# Altium footprint library 研发中心PCB库文件.PcbLib: 333 footprints (part 11 of 21)
Each footprint in its own frame and in the unit in brackets; x right, y up, seen from the top. Pads: shape width x height; smd on the part's side, far side on the other; paste and mask are expansions set on the pad; w line width, h text height; cw(c..) or ccw(c..) is an arc to the next point about the centre after c.
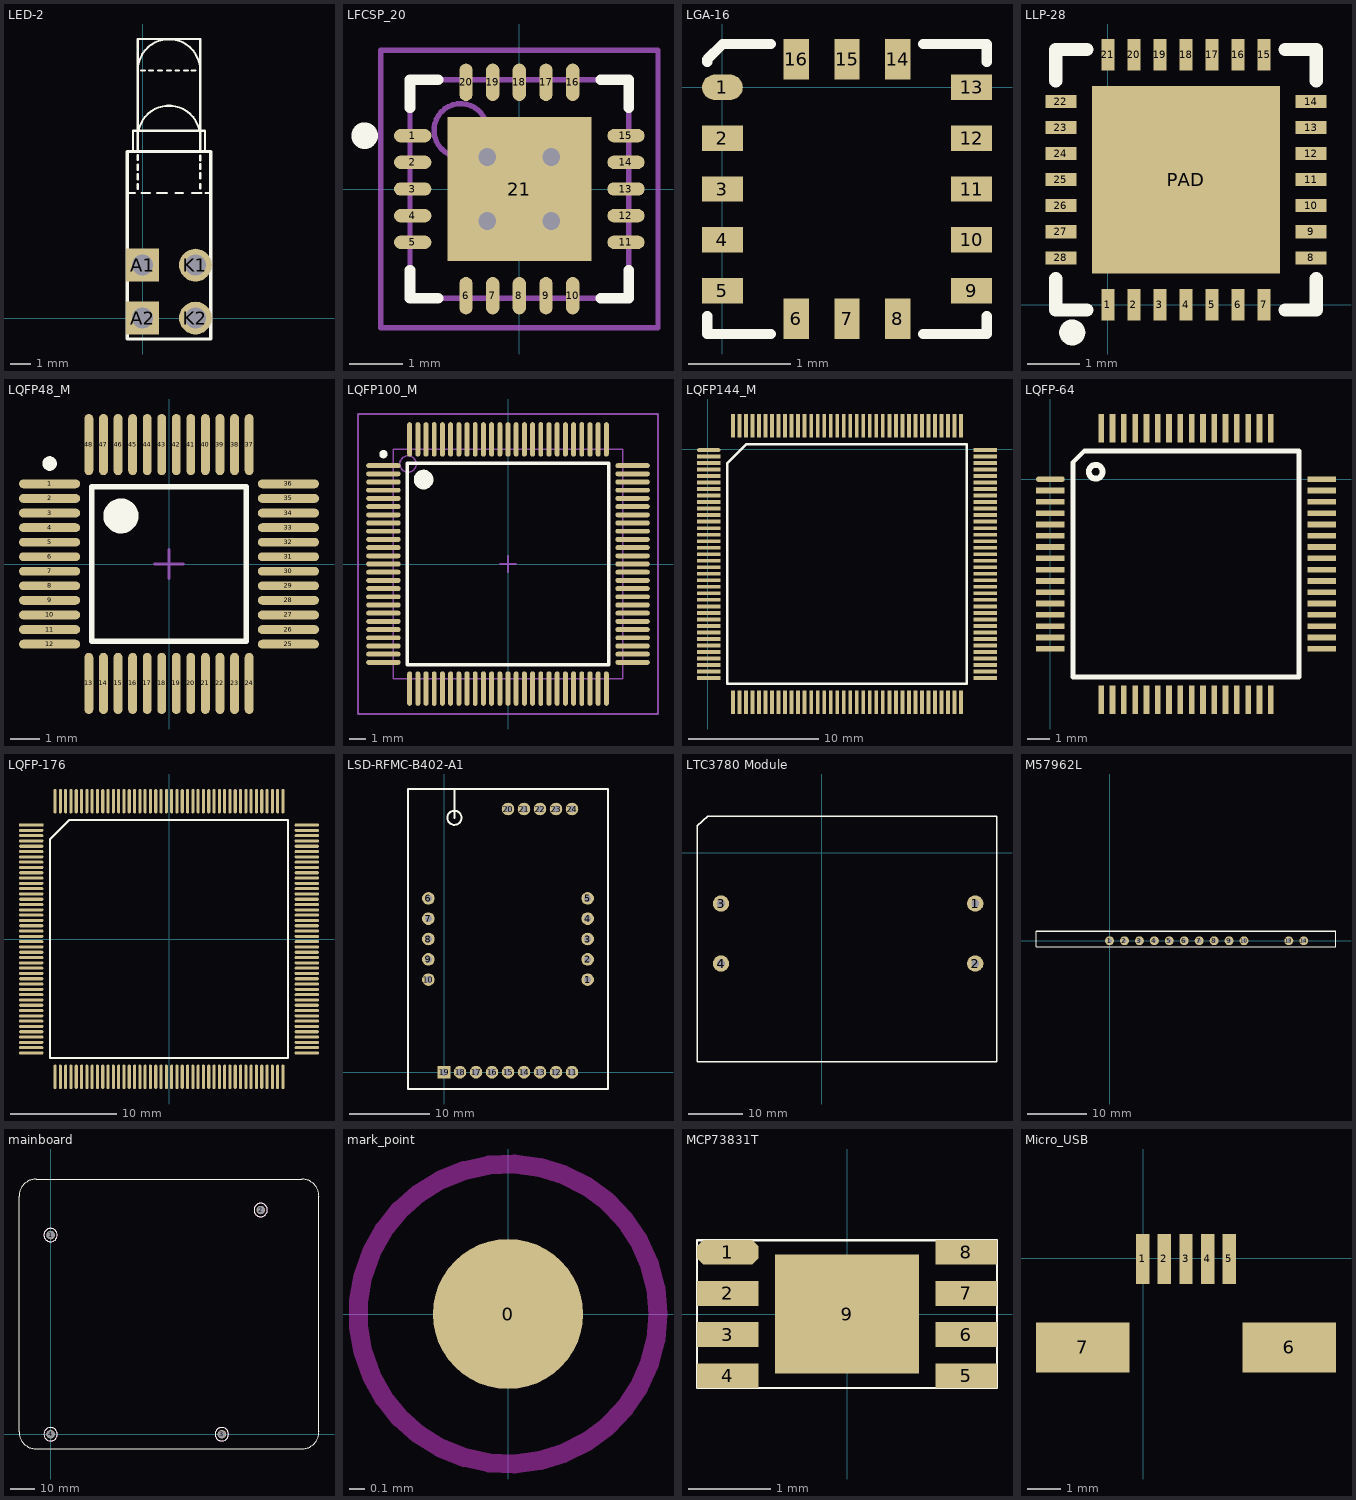
[diagram p10: the footprints below, top view; thin cyan lines are the x and y axes]

## LED-2 [mil]
pads (4):
  rect 62x62 hole 40: A1(0,100) A2(0,0)
  round 62 hole 40: K1(100,100) K2(100,0)
Top Overlay:
  lines w3.94: -30,236.02 -14,236.02 ; -18,315 -18,354 118,354 118,315 ; -9.11,468 cw(c49.94,468) 109,468 ; -9.06,342.32 cw(c50,342.32) 109.06,342.32 ; -9,244 -9,253 ; -9,262 -9,272 ; -9,280 -9,290 ; -9,299 -9,308 ; -9,315 -9,350 -9,527 ; -9,527.36 109,527.36 ; -3,468 5,468 ; -2,236.02 14,236.02 ; 12,468 20,468 ; 27,236.02 46,236.02 ; 29,468 37,468 ; 46,468 54,468 ; 62,236.02 76,236.02 ; 62,468 69,468 ; 78,468 86,468 ; 93,468 100,468 ; 94,236.02 111,236.02 ; 109,245 109,253 ; 109,264 109,274 ; 109,282 109,291 ; 109,298 109,307 ; 109,314 109,350 109,527 ; 119,236.02 128,236.02
  lines w6: -28.74,-39.57 128.74,-39.57 128.74,314.76 -28.74,314.76 -28.74,-39.57

## LFCSP_20 [mm]
height 0.8
pads (21):
  oval 0.7x0.25 smd: 1(-2,1) 2(-2,0.5) 3(-2,0) 4(-2,-0.5) 5(-2,-1) 11(2,-1) 12(2,-0.5) 13(2,0) 14(2,0.5) 15(2,1)
  oval 0.25x0.7 smd: 6(-1,-2) 7(-0.5,-2) 8(0,-2) 9(0.5,-2) 10(1,-2) 16(1,2) 17(0.5,2) 18(0,2) 19(-0.5,2) 20(-1,2)
  rect 2.7x2.7 smd: 21(0,0)
via 0.6,-0.6 diameter 0.66 hole 0.33
via -0.6,-0.6 diameter 0.66 hole 0.33
via 0.6,0.6 diameter 0.66 hole 0.33
via -0.6,0.6 diameter 0.66 hole 0.33
Top Overlay:
  circle w0.25: c-2.9,1 r0.125
  lines w0.2: -2.05,-1.525 -2.05,-2.05 -1.525,-2.05 ; -2.05,1.525 -2.05,2.05 -1.525,2.05 ; 1.525,-2.05 2.05,-2.05 2.05,-1.525 ; 1.525,2.05 2.05,2.05 2.05,1.525
Mechanical 13:
  circle w0.1: c-1.1,1.1 r0.5
  lines w0.1: -2.05,-2.05 2.05,-2.05 2.05,2.05 -2.05,2.05 -2.05,-2.05
Mechanical 15:
  lines w0.1: -0.5,0 0.5,0 ; 0,-0.5 0,0.5 ; -2.6,-2.6 2.6,-2.6 2.6,2.6 -2.6,2.6 -2.6,-2.6
3D body: height 0.8, standoff 0.02, extent -2.05,-2.05 2.05,2.05

## LGA-16 [mm]
pads (16):
  oval 0.4x0.25 smd: 1(0,0)
  rect 0.4x0.25 smd: 2(0,-0.5) 3(0,-1) 4(0,-1.5) 5(0,-2) 9(2.45,-2) 10(2.45,-1.5) 11(2.45,-1) 12(2.45,-0.5) 13(2.45,0)
  rect 0.25x0.4 smd: 6(0.725,-2.275) 7(1.225,-2.275) 8(1.725,-2.275) 14(1.725,0.275) 15(1.225,0.275) 16(0.725,0.275)
Top Overlay:
  lines w0.1: -0.15,-2.25 -0.15,-2.425 0.475,-2.425 ; -0.15,0.25 -0.15,0.275 0,0.425 0.475,0.425 ; 1.975,-2.425 2.6,-2.425 2.6,-2.25 ; 1.975,0.425 2.6,0.425 2.6,0.25

## LLP-28 [mm]
height 0.8
pads (29):
  rect 0.25x0.6 smd: 1(0,0) 2(0.5,0) 3(1,0) 4(1.5,0) 5(2,0) 6(2.5,0) 7(3,0) 15(3,4.8) 16(2.5,4.8) 17(2,4.8) 18(1.5,4.8) 19(1,4.8) 20(0.5,4.8) 21(0,4.8)
  rect 0.6x0.25 smd: 8(3.9,0.9) 9(3.9,1.4) 10(3.9,1.9) 11(3.9,2.4) 12(3.9,2.9) 13(3.9,3.4) 14(3.9,3.9) 22(-0.9,3.9) 23(-0.9,3.4) 24(-0.9,2.9) 25(-0.9,2.4) 26(-0.9,1.9) 27(-0.9,1.4) 28(-0.9,0.9)
  rect 3.6x3.6 smd: PAD(1.5,2.4)
Top Overlay:
  circle w0.25: c-0.684,-0.533 r0.125
  lines w0.254: -1,0.5 -1,-0.1 -0.4,-0.1 ; -1,4.3 -1,4.9 -0.4,4.9 ; 3.4,-0.1 4,-0.1 4,0.5 ; 3.4,4.9 4,4.9 4,4.3

## LQFP48_M [mm] "Thin QFP, 48-Leads, Body 7x7mm, Pitch 0.5mm, IPC Low Density"
height 1.6
pads (48):
  oval 2.1x0.3 smd: 1(-4.1,2.75) 2(-4.1,2.25) 3(-4.1,1.75) 4(-4.1,1.25) 5(-4.1,0.75) 6(-4.1,0.25) 7(-4.1,-0.25) 8(-4.1,-0.75) 9(-4.1,-1.25) 10(-4.1,-1.75) 11(-4.1,-2.25) 12(-4.1,-2.75) 25(4.1,-2.75) 26(4.1,-2.25) 27(4.1,-1.75) 28(4.1,-1.25) 29(4.1,-0.75) 30(4.1,-0.25) 31(4.1,0.25) 32(4.1,0.75) 33(4.1,1.25) 34(4.1,1.75) 35(4.1,2.25) 36(4.1,2.75)
  oval 0.3x2.1 smd: 13(-2.75,-4.1) 14(-2.25,-4.1) 15(-1.75,-4.1) 16(-1.25,-4.1) 17(-0.75,-4.1) 18(-0.25,-4.1) 19(0.25,-4.1) 20(0.75,-4.1) 21(1.25,-4.1) 22(1.75,-4.1) 23(2.25,-4.1) 24(2.75,-4.1) 37(2.75,4.1) 38(2.25,4.1) 39(1.75,4.1) 40(1.25,4.1) 41(0.75,4.1) 42(0.25,4.1) 43(-0.25,4.1) 44(-0.75,4.1) 45(-1.25,4.1) 46(-1.75,4.1) 47(-2.25,4.1) 48(-2.75,4.1)
Top Overlay:
  circle w0.6: c-1.65,1.65 r0.3
  circle w0.25: c-4.1,3.45 r0.125
  lines w0.2: -2.65,-2.65 2.65,-2.65 2.65,2.65 -2.65,2.65 -2.65,-2.65
Mechanical 15:
  lines w0.1: -0.5,0 0.5,0 ; 0,-0.5 0,0.5

## LQFP100_M [mm]
pads (100):
  oval 2.1x0.3 smd: 1(-7.6,6) 2(-7.6,5.5) 3(-7.6,5) 4(-7.6,4.5) 5(-7.6,4) 6(-7.6,3.5) 7(-7.6,3) 8(-7.6,2.5) 9(-7.6,2) 10(-7.6,1.5) 11(-7.6,1) 12(-7.6,0.5) 13(-7.6,0) 14(-7.6,-0.5) 15(-7.6,-1) 16(-7.6,-1.5) 17(-7.6,-2) 18(-7.6,-2.5) 19(-7.6,-3) 20(-7.6,-3.5) 21(-7.6,-4) 22(-7.6,-4.5) 23(-7.6,-5) 24(-7.6,-5.5) 25(-7.6,-6) 51(7.6,-6) 52(7.6,-5.5) 53(7.6,-5) 54(7.6,-4.5) 55(7.6,-4) 56(7.6,-3.5) 57(7.6,-3) 58(7.6,-2.5) 59(7.6,-2) 60(7.6,-1.5) 61(7.6,-1) 62(7.6,-0.5) 63(7.6,0) 64(7.6,0.5) 65(7.6,1) 66(7.6,1.5) 67(7.6,2) 68(7.6,2.5) 69(7.6,3) 70(7.6,3.5) 71(7.6,4) 72(7.6,4.5) 73(7.6,5) 74(7.6,5.5) 75(7.6,6)
  oval 0.3x2.1 smd: 26(-6,-7.6) 27(-5.5,-7.6) 28(-5,-7.6) 29(-4.5,-7.6) 30(-4,-7.6) 31(-3.5,-7.6) 32(-3,-7.6) 33(-2.5,-7.6) 34(-2,-7.6) 35(-1.5,-7.6) 36(-1,-7.6) 37(-0.5,-7.6) 38(0,-7.6) 39(0.5,-7.6) 40(1,-7.6) 41(1.5,-7.6) 42(2,-7.6) 43(2.5,-7.6) 44(3,-7.6) 45(3.5,-7.6) 46(4,-7.6) 47(4.5,-7.6) 48(5,-7.6) 49(5.5,-7.6) 50(6,-7.6) 76(6,7.6) 77(5.5,7.6) 78(5,7.6) 79(4.5,7.6) 80(4,7.6) 81(3.5,7.6) 82(3,7.6) 83(2.5,7.6) 84(2,7.6) 85(1.5,7.6) 86(1,7.6) 87(0.5,7.6) 88(0,7.6) 89(-0.5,7.6) 90(-1,7.6) 91(-1.5,7.6) 92(-2,7.6) 93(-2.5,7.6) 94(-3,7.6) 95(-3.5,7.6) 96(-4,7.6) 97(-4.5,7.6) 98(-5,7.6) 99(-5.5,7.6) 100(-6,7.6)
Top Overlay:
  circle w0.25: c-7.6,6.7 r0.125
  circle w0.6: c-5.15,5.15 r0.3
  lines w0.2: -6.15,-6.15 -6.15,6.15 6.15,6.15 6.15,-6.15 -6.15,-6.15
Mechanical 13:
  circle w0.1: c-6.1,6.1 r0.5
  lines w0.1: -7,-7 -7,7 7,7 7,-7 -7,-7
Mechanical 15:
  lines w0.1: -0.5,0 0.5,0 ; 0,-0.5 0,0.5 ; -9.15,-9.15 -9.15,9.15 9.15,9.15 9.15,-9.15 -9.15,-9.15

## LQFP144_M [mm]
pads (144):
  oval 1.8x0.3 smd: 1(0.082,-0.058)
  rect 1.8x0.3 smd: 2(0.082,-0.558) 3(0.082,-1.058) 4(0.082,-1.558) 5(0.082,-2.058) 6(0.082,-2.558) 7(0.082,-3.058) 8(0.082,-3.558) 9(0.082,-4.058) 10(0.082,-4.558) 11(0.082,-5.058) 12(0.082,-5.558) 13(0.082,-6.058) 14(0.082,-6.558) 15(0.082,-7.058) 16(0.082,-7.558) 17(0.082,-8.058) 18(0.082,-8.558) 19(0.082,-9.058) 20(0.082,-9.558) 21(0.082,-10.058) 22(0.082,-10.558) 23(0.082,-11.058) 24(0.082,-11.558) 25(0.082,-12.058) 26(0.082,-12.558) 27(0.082,-13.058) 28(0.082,-13.558) 29(0.082,-14.058) 30(0.082,-14.558) 31(0.082,-15.058) 32(0.082,-15.558) 33(0.082,-16.058) 34(0.082,-16.558) 35(0.082,-17.058) 36(0.082,-17.558) 73(21.332,-17.558) 74(21.332,-17.058) 75(21.332,-16.558) 76(21.332,-16.058) 77(21.332,-15.558) 78(21.332,-15.058) 79(21.332,-14.558) 80(21.332,-14.058) 81(21.332,-13.558) 82(21.332,-13.058) 83(21.332,-12.558) 84(21.332,-12.058) 85(21.332,-11.558) 86(21.332,-11.058) 87(21.332,-10.558) 88(21.332,-10.058) 89(21.332,-9.558) 90(21.332,-9.058) 91(21.332,-8.558) 92(21.332,-8.058) 93(21.332,-7.558) 94(21.332,-7.058) 95(21.332,-6.558) 96(21.332,-6.058) 97(21.332,-5.558) 98(21.332,-5.058) 99(21.332,-4.558) 100(21.332,-4.058) 101(21.332,-3.558) 102(21.332,-3.058) 103(21.332,-2.558) 104(21.332,-2.058) 105(21.332,-1.558) 106(21.332,-1.058) 107(21.332,-0.558) 108(21.332,-0.058)
  rect 0.3x1.8 smd: 37(1.957,-19.433) 38(2.457,-19.433) 39(2.957,-19.433) 40(3.457,-19.433) 41(3.957,-19.433) 42(4.457,-19.433) 43(4.957,-19.433) 44(5.457,-19.433) 45(5.957,-19.433) 46(6.457,-19.433) 47(6.957,-19.433) 48(7.457,-19.433) 49(7.957,-19.433) 50(8.457,-19.433) 51(8.957,-19.433) 52(9.457,-19.433) 53(9.957,-19.433) 54(10.457,-19.433) 55(10.957,-19.433) 56(11.457,-19.433) 57(11.957,-19.433) 58(12.457,-19.433) 59(12.957,-19.433) 60(13.457,-19.433) 61(13.957,-19.433) 62(14.457,-19.433) 63(14.957,-19.433) 64(15.457,-19.433) 65(15.957,-19.433) 66(16.457,-19.433) 67(16.957,-19.433) 68(17.457,-19.433) 69(17.957,-19.433) 70(18.457,-19.433) 71(18.957,-19.433) 72(19.457,-19.433) 109(19.457,1.817) 110(18.957,1.817) 111(18.457,1.817) 112(17.957,1.817) 113(17.457,1.817) 114(16.957,1.817) 115(16.457,1.817) 116(15.957,1.817) 117(15.457,1.817) 118(14.957,1.817) 119(14.457,1.817) 120(13.957,1.817) 121(13.457,1.817) 122(12.957,1.817) 123(12.457,1.817) 124(11.957,1.817) 125(11.457,1.817) 126(10.957,1.817) 127(10.457,1.817) 128(9.957,1.817) 129(9.457,1.817) 130(8.957,1.817) 131(8.457,1.817) 132(7.957,1.817) 133(7.457,1.817) 134(6.957,1.817) 135(6.457,1.817) 136(5.957,1.817) 137(5.457,1.817) 138(4.957,1.817) 139(4.457,1.817) 140(3.957,1.817) 141(3.457,1.817) 142(2.957,1.817) 143(2.457,1.817) 144(1.957,1.817)
Top Overlay:
  lines w0.2: 1.517,-17.998 19.897,-17.998 19.897,0.382 2.952,0.382 1.517,-1.053 1.517,-17.998

## LQFP-64 [mil]
pads (64):
  oval 50x10 smd: 1(0.16,-0.14)
  rect 50x10 smd: 2(0.16,-19.83) 3(0.16,-39.51) 4(0.16,-59.2) 5(0.16,-78.88) 6(0.16,-98.57) 7(0.16,-118.25) 8(0.16,-137.94) 9(0.16,-157.62) 10(0.16,-177.31) 11(0.16,-196.99) 12(0.16,-216.68) 13(0.16,-236.36) 14(0.16,-256.05) 15(0.16,-275.73) 16(0.16,-295.42) 33(472.6,-295.42) 34(472.6,-275.73) 35(472.6,-256.05) 36(472.6,-236.36) 37(472.6,-216.68) 38(472.6,-196.99) 39(472.6,-177.31) 40(472.6,-157.62) 41(472.6,-137.94) 42(472.6,-118.25) 43(472.6,-98.57) 44(472.6,-78.88) 45(472.6,-59.2) 46(472.6,-39.51) 47(472.6,-19.83) 48(472.6,-0.14)
  rect 10x50 smd: 17(88.74,-384) 18(108.43,-384) 19(128.11,-384) 20(147.8,-384) 21(167.48,-384) 22(187.17,-384) 23(206.85,-384) 24(226.54,-384) 25(246.22,-384) 26(265.91,-384) 27(285.59,-384) 28(305.28,-384) 29(324.96,-384) 30(344.65,-384) 31(364.33,-384) 32(384.02,-384) 49(384.02,88.44) 50(364.33,88.44) 51(344.65,88.44) 52(324.96,88.44) 53(305.28,88.44) 54(285.59,88.44) 55(265.91,88.44) 56(246.22,88.44) 57(226.54,88.44) 58(206.85,88.44) 59(187.17,88.44) 60(167.48,88.44) 61(147.8,88.44) 62(128.11,88.44) 63(108.43,88.44) 64(88.74,88.44)
Top Overlay:
  circle w10: c79.12,12.86 r12.04
  lines w8: 39.53,-344.63 39.53,29.39 59.21,49.07 433.23,49.07 433.23,-344.63 39.53,-344.63

## LQFP-176 [mm]
pads (176):
  rect 2.3x0.3 smd: 1(-13,10.75)
  oval 2.3x0.3 smd: 2(-13,10.25) 3(-13,9.75) 4(-13,9.25) 5(-13,8.75) 6(-13,8.25) 7(-13,7.75) 8(-13,7.25) 9(-13,6.75) 10(-13,6.25) 11(-13,5.75) 12(-13,5.25) 13(-13,4.75) 14(-13,4.25) 15(-13,3.75) 16(-13,3.25) 17(-13,2.75) 18(-13,2.25) 19(-13,1.75) 20(-13,1.25) 21(-13,0.75) 22(-13,0.25) 23(-13,-0.25) 24(-13,-0.75) 25(-13,-1.25) 26(-13,-1.75) 27(-13,-2.25) 28(-13,-2.75) 29(-13,-3.25) 30(-13,-3.75) 31(-13,-4.25) 32(-13,-4.75) 33(-13,-5.25) 34(-13,-5.75) 35(-13,-6.25) 36(-13,-6.75) 37(-13,-7.25) 38(-13,-7.75) 39(-13,-8.25) 40(-13,-8.75) 41(-13,-9.25) 42(-13,-9.75) 43(-13,-10.25) 44(-13,-10.75) 89(13,-10.75) 90(13,-10.25) 91(13,-9.75) 92(13,-9.25) 93(13,-8.75) 94(13,-8.25) 95(13,-7.75) 96(13,-7.25) 97(13,-6.75) 98(13,-6.25) 99(13,-5.75) 100(13,-5.25) 101(13,-4.75) 102(13,-4.25) 103(13,-3.75) 104(13,-3.25) 105(13,-2.75) 106(13,-2.25) 107(13,-1.75) 108(13,-1.25) 109(13,-0.75) 110(13,-0.25) 111(13,0.25) 112(13,0.75) 113(13,1.25) 114(13,1.75) 115(13,2.25) 116(13,2.75) 117(13,3.25) 118(13,3.75) 119(13,4.25) 120(13,4.75) 121(13,5.25) 122(13,5.75) 123(13,6.25) 124(13,6.75) 125(13,7.25) 126(13,7.75) 127(13,8.25) 128(13,8.75) 129(13,9.25) 130(13,9.75) 131(13,10.25) 132(13,10.75)
  oval 0.3x2.3 smd: 45(-10.75,-13) 46(-10.25,-13) 47(-9.75,-13) 48(-9.25,-13) 49(-8.75,-13) 50(-8.25,-13) 51(-7.75,-13) 52(-7.25,-13) 53(-6.75,-13) 54(-6.25,-13) 55(-5.75,-13) 56(-5.25,-13) 57(-4.75,-13) 58(-4.25,-13) 59(-3.75,-13) 60(-3.25,-13) 61(-2.75,-13) 62(-2.25,-13) 63(-1.75,-13) 64(-1.25,-13) 65(-0.75,-13) 66(-0.25,-13) 67(0.25,-13) 68(0.75,-13) 69(1.25,-13) 70(1.75,-13) 71(2.25,-13) 72(2.75,-13) 73(3.25,-13) 74(3.75,-13) 75(4.25,-13) 76(4.75,-13) 77(5.25,-13) 78(5.75,-13) 79(6.25,-13) 80(6.75,-13) 81(7.25,-13) 82(7.75,-13) 83(8.25,-13) 84(8.75,-13) 85(9.25,-13) 86(9.75,-13) 87(10.25,-13) 88(10.75,-13) 133(10.75,13) 134(10.25,13) 135(9.75,13) 136(9.25,13) 137(8.75,13) 138(8.25,13) 139(7.75,13) 140(7.25,13) 141(6.75,13) 142(6.25,13) 143(5.75,13) 144(5.25,13) 145(4.75,13) 146(4.25,13) 147(3.75,13) 148(3.25,13) 149(2.75,13) 150(2.25,13) 151(1.75,13) 152(1.25,13) 153(0.75,13) 154(0.25,13) 155(-0.25,13) 156(-0.75,13) 157(-1.25,13) 158(-1.75,13) 159(-2.25,13) 160(-2.75,13) 161(-3.25,13) 162(-3.75,13) 163(-4.25,13) 164(-4.75,13) 165(-5.25,13) 166(-5.75,13) 167(-6.25,13) 168(-6.75,13) 169(-7.25,13) 170(-7.75,13) 171(-8.25,13) 172(-8.75,13) 173(-9.25,13) 174(-9.75,13) 175(-10.25,13) 176(-10.75,13)
Top Overlay:
  lines w0.2: -11.215,-11.215 -11.215,9.43 -9.43,11.215 11.215,11.215 11.215,-11.215 -11.215,-11.215

## LSD-RFMC-B402-A1 [mil]
pads (24):
  round 62 hole 35: 1(707.08,455.51) 2(707.08,555.51) 3(707.08,655.51) 4(707.08,755.51) 5(707.08,855.51) 6(-77.17,855.51) 7(-77.17,755.51) 8(-77.17,655.51) 9(-77.17,555.51) 10(-77.17,455.51) 11(629.92,0) 12(551.18,0) 13(472.44,0) 14(393.7,0) 15(314.96,0) 16(236.22,0) 17(157.48,0) 18(78.74,0) 20(314.96,1295.28) 21(393.7,1295.28) 22(472.44,1295.28) 23(551.18,1295.28) 24(629.92,1295.28)
  rect 62x62 hole 35: 19(0,0)
Top Overlay:
  circle w10: c51.18,1251.97 r34.89
  lines w10: 51.56,1251.95 51.56,1393.68 ; -177.17,-82.68 -177.17,1393.7 807.09,1393.7 807.09,-82.68 -177.17,-82.68

## LTC3780 Module [mm]
pads (4):
  round 3 hole 1.4: 1(28.1,-9.3) 2(28.1,-20.3) 3(-18.5,-9.3) 4(-18.5,-20.3)
Top Overlay:
  lines w0.254: -22.9,5 -22.9,-38.3 32.1,-38.3 32.1,6.7 -20.9,6.7 -22.9,5 ; -22.9,5 -22.9,5

## M57962L [mil]
pads (12):
  round 60 hole 30: 1(0,0) 2(100,0) 3(200,0) 4(300,0) 5(400,0) 6(500,0) 7(600,0) 8(700,0) 9(800,0) 10(900,0) 13(1200,0) 14(1300,0)
Top Overlay:
  lines w8: -492.13,62.99 -492.13,-39.37 1515.75,-39.37 1515.75,62.99
  lines w10: -492.13,62.99 1515.75,62.99

## mainboard [mm]
pads (4):
  round 3.5 hole 3.2: 1(0,82) 2(86.5,92.3) 3(70.5,0) 4(0,0)
Top Overlay:
  circle w0.254: c0,82 r2.75
  circle w0.254: c86.5,92.3 r2.75
  circle w0.254: c70.5,0 r2.75
  circle w0.254: c0,0 r2.75
  lines w0.254: -13,1 ccw(c-6,1) -6,-6 103.5,-6 ccw(c103.5,1) 110.5,1 110.5,98 ccw(c103.5,98) 103.5,105 -6,105 ccw(c-6,98) -13,98 -13,1
Keep-Out Layer:
  circle w0.254: c0,82 r2.75
  circle w0.254: c86.5,92.3 r2.75
  circle w0.254: c0,0 r2.75
  circle w0.254: c70.5,0 r2.75

## mark_point [mm]
pads (2):
  round 1 smd: 0(0,0)
  round 2 on Top Solder: ""(0,0)
Keep-Out Layer:
  circle w0.127: c0,0 r1

## MCP73831T [mm]
pads (9):
  oct 0.75x0.3 smd: 1(-1.45,0.75)
  rect 0.75x0.3 smd: 2(-1.45,0.25) 3(-1.45,-0.25) 4(-1.45,-0.75) 5(1.45,-0.75) 6(1.45,-0.25) 7(1.45,0.25) 8(1.45,0.75)
  rect 1.75x1.45 smd: 9(0,0)
Top Overlay:
  lines w0.025: 1.82,0.898 -1.825,0.898 -1.825,-0.9 1.825,-0.9 1.825,0.903

## Micro_USB [mm]
pads (7):
  rect 0.4x1.5 smd: 1(-0.013,-0.026) 2(0.637,-0.026) 3(1.287,-0.026) 4(1.937,-0.026) 5(2.587,-0.026)
  rect 2.8x1.5 smd: 6(4.387,-2.676) 7(-1.813,-2.676)